# EAGLE library part BOLYMIN-16-* (library jt-displays-outlines)
Molex 52207-16 top-connection FPC 1mm
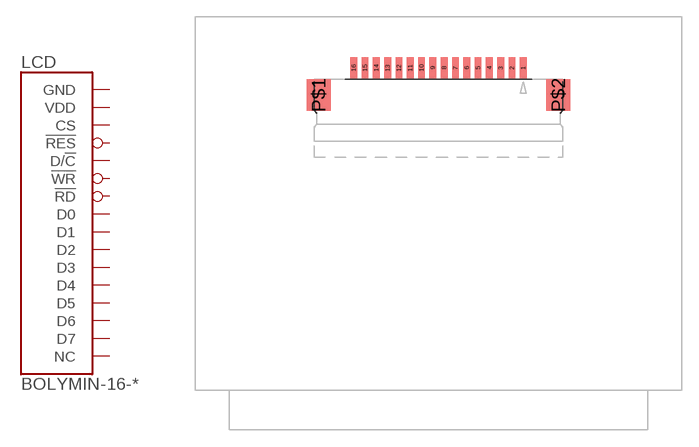
[diagram p3: symbol with the pads of BL160128A; footprint BL160128A]

Designator prefix LCD

## BOLYMIN-16-BL160128A  [BL160128A]
1  GND  pwr
2  VDD  pwr
3  CS  in
4  !RES  in
5  D/!C  in
6  !WR  in
7  !RD  in
8  D0
9  D1
10  D2
11  D3
12  D4
13  D5
14  D6
15  D7
16  NC  pwr

## Footprint BL160128A (pad centres in mm)
Bolymin BL160128A RGB OLED display
smd 0.6 x 1.9: 1 7.5,1; 2 6.5,1; 3 5.5,1; 4 4.5,1; 5 3.5,1; 6 2.5,1; 7 1.5,1; 8 0.5,1; 9 -0.5,1; 10 -1.5,1; 11 -2.5,1; 12 -3.5,1; 13 -4.5,1; 14 -5.5,1; 15 -6.5,1; 16 -7.5,1
smd 2.1 x 2.8: P$1 -10.6,-1.4; P$2 10.6,-1.4